# Altium footprint library INFINITY.Connector.PcbLib: 12 footprints
Each footprint in its own frame and in the unit in brackets; x right, y up, seen from the top. Pads: shape width x height; smd on the part's side, far side on the other; paste and mask are expansions set on the pad; w line width, h text height; cw(c..) or ccw(c..) is an arc to the next point about the centre after c.
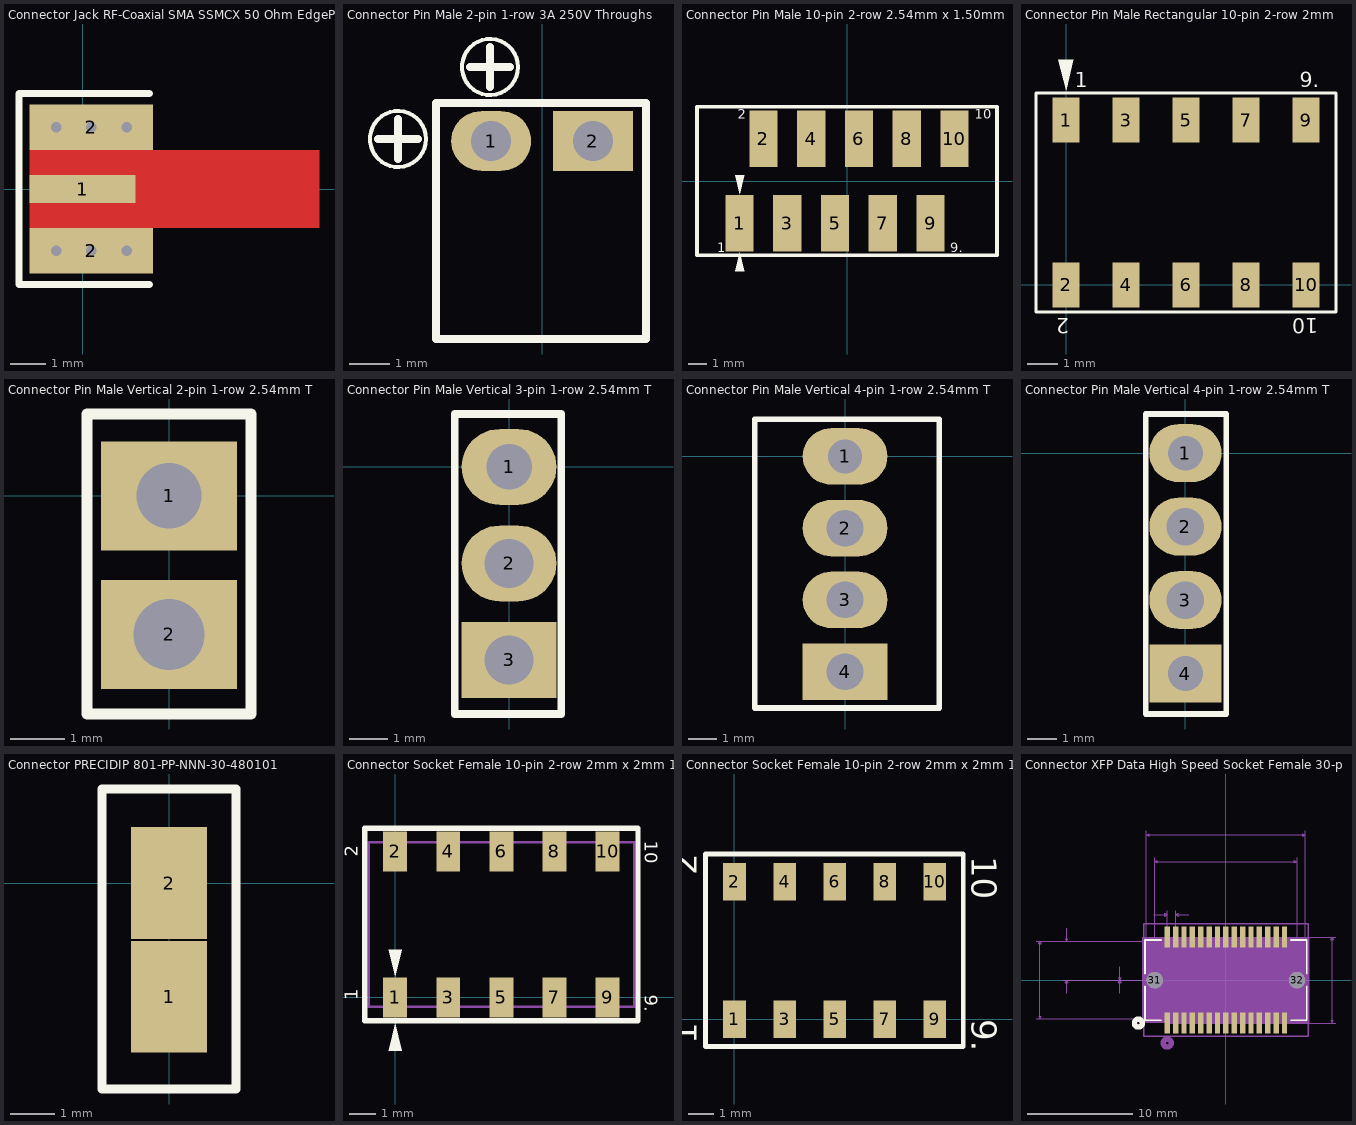
[diagram p0: the footprints below, top view; thin cyan lines are the x and y axes]

## Connector Jack RF-Coaxial SMA SSMCX 50 Ohm EdgePCB Molex 734154670 [mm]
pads (3):
  rect 3x0.8 smd mask+0: 1(0,0)
  rect 3.5x1.3 smd mask+0: 2(0.25,-1.75) 2(0.25,1.75)
via 0.25,1.75 diameter 0.7 hole 0.3
via 0.25,-1.75 diameter 0.7 hole 0.3
via 1.25,-1.75 diameter 0.7 hole 0.3
via -0.75,-1.75 diameter 0.7 hole 0.3
via 1.25,1.75 diameter 0.7 hole 0.3
via -0.75,1.75 diameter 0.7 hole 0.3
Top Layer:
  pour cut-out: -1.5,-1.1 6.7,-1.1 6.7,1.1 -1.5,1.1
Top Overlay:
  lines w0.2: 1.9,-2.7 -1.8,-2.7 -1.8,2.7 1.9,2.7
3D body "Connector Jack RF-Coaxial SMA SSMCX 50 Ohm EdgePCB Molex 734154670.STEP": height 1.44, standoff -0.86, extent -0.96,-1.971 6.709,1.928

## Connector Pin Male 2-pin 1-row 3A 250V Throughs hole Wurth Electronics 61900219521 [mm]
pads (2):
  oval 2x1.5 hole 1: 1(-1.27,7.45)
  rect 2x1.5 hole 1: 2(1.27,7.45)
Top Overlay:
  circle w0.1: c-3.6,7.5 r0.7
  circle w0.1: c-1.3,9.3 r0.7
  lines w0.2: -4.1,7.5 -3.6,7.5 ; -3.6,7 -3.6,8 -3.6,7.5 ; -1.8,9.3 -1.3,9.3 ; -1.3,8.8 -1.3,9.8 -1.3,9.3 ; -3.6,7.5 -3.1,7.5 -3.6,7.5 ; -1.3,9.3 -0.8,9.3 -1.3,9.3 ; -2.65,2.5 -2.65,8.4 2.6,8.4 2.6,2.5 -2.65,2.5
3D body "Connector Pins Wurth Electronics 61900219521 2 pins 3A 250V Throughs hole.stp": height 5.9, standoff -3.3, extent -2.557,-5.797 2.523,7.723

## Connector Pin Male 10-pin 2-row 2.54mm x 1.50mm 1.5A 100V SMT Wurth Electronics WR-MM 690357281076 [mm]
pads (10):
  rect 1.5x3 smd: 1(-5.715,-2.25) 2(-4.445,2.25) 3(-3.175,-2.25) 4(-1.905,2.25) 5(-0.635,-2.25) 6(0.635,2.25) 7(1.905,-2.25) 8(3.175,2.25) 9(4.445,-2.25) 10(5.715,2.25)
Top Overlay:
  region: -5.45,-4.8 -5.7,-3.8 -5.95,-4.8
  region: -5.95,0.3 -5.7,-0.7 -5.45,0.3
  lines w0.2: -7.975,-3.95 -7.975,3.95 7.975,3.95 7.975,-3.95 -7.975,-3.95
  text "9." at 5.5,-3.8 h0.5
  text "2" at -5.8,3.3 h0.5
  text "1" at -6.9,-3.8 h0.5
  text "10" at 6.8,3.3 h0.5
3D body "Connector Pin Male 10-pin 2-row 2.54mm x 1.50mm 1.5A 100V SMT Wurth Electronics WR-MM 690357281076.STEP": height 4.6, standoff 0, extent -7.865,-3.25 7.865,3.25

## Connector Pin Male Rectangular 10-pin 2-row 2mm x 2mm 125V 2A Series Milli-Grid 87759 SMT Molex 0877591014 [mm] "https://www.digikey.com/products/en?keywords=87759-1014"
height 5
pads (10):
  rect 0.9x1.5 smd: 1(0,5.5) 2(0,0) 3(2,5.5) 4(2,0) 5(4,5.5) 6(4,0) 7(6,5.5) 8(6,0) 9(8,5.5) 10(8,0)
Top Overlay:
  region: -0.25,7.5 0,6.5 0.25,7.5
  lines w0.1: -1,-0.9 -1,6.4 9,6.4 9,-0.9 -1,-0.9
  text "9." at 7.8,6.6 h0.5
  text "10" at 8.4,-1.1 h0.5
  text "2" at 0.1,-1.1 h0.5
  text "1" at 0.3,6.6 h0.5
3D body "877591014.stp": height 6.55, standoff 0.05, extent -0.95,0.05 8.95,5.55

## Connector Pin Male Vertical 2-pin 1-row 2.54mm Through Hole 250V 3A Wurth Electronics 61300211121 [mm]
pads (2):
  rect 2.5x2 hole 1.2: 1(0,0)
  rect 2.5x2 hole 1.3: 2(0,-2.54)
Top Overlay:
  lines w0.2: -1.5,-4 1.5,-4 1.5,1.5 -1.5,1.5 -1.5,-4
3D body "Download_STP_61300211121 (rev1).stp": height 8.57, standoff -2.97, extent -1.246,-3.809 1.294,1.271

## Connector Pin Male Vertical 3-pin 1-row 2.54mm Through Hole 250V 3A Wurth Electronics 61300311121 [mm]
pads (3):
  oval 2.5x2 hole 1.2: 1(0,0)
  oval 2.5x2 hole 1.3: 2(0,-2.54)
  rect 2.5x2 hole 1.3: 3(0,-5.08)
Top Overlay:
  lines w0.2: -1.427,-6.502 -1.427,1.394 1.372,1.394 1.372,-6.502 -1.427,-6.502
3D body "Connector Pins Header Vertical 3-positions Pitch 2.54mm Through Hole 250V 3A Wurth Electronics 61300311121.stp": height 8.57, standoff -2.97, extent -1.293,-6.366 1.247,1.254

## Connector Pin Male Vertical 4-pin 1-row 2.54mm Through Hole 250V 3A Molex 0022232041 [mm]
pads (4):
  oval 3x2 hole 1.2: 1(0,0)
  oval 3x2 hole 1.3: 2(0,-2.54) 3(0,-5.08)
  rect 3x2 hole 1.3: 4(0,-7.62)
Top Overlay:
  lines w0.2: -3.195,-8.909 3.332,-8.909 3.332,-0.332 3.332,1.313 -3.195,1.313 -3.195,-8.909
3D body "Connector Pins Header Vertical 4-positions Pitch 2.54mm Through Hole 250V 3A Molex 0022232041.stp": height 11.08, standoff -3.14, extent -3.1,-8.804 3.25,1.204

## Connector Pin Male Vertical 4-pin 1-row 2.54mm Through Hole 250V 3A Wurth Electronics 61300411121 [mm]
pads (4):
  oval 2.5x2 hole 1.2: 1(0,0)
  oval 2.5x2 hole 1.3: 2(0,-2.54) 3(0,-5.08)
  rect 2.5x2 hole 1.2: 4(0,-7.62)
Top Overlay:
  lines w0.2: -1.371,-9.019 1.411,-9.019 1.411,1.353 -1.371,1.353 -1.371,-9.019
3D body "Connector Pins Header Vertical 4-positions Pitch 2.54mm Through Hole 250V 3A Wurth Electronics 61300411121.stp": height 8.57, standoff -2.97, extent -1.249,-8.913 1.291,1.247

## Connector PRECIDIP 801-PP-NNN-30-480101 [mm]
height 4.2
pads (2):
  rect 1.7x2.5 smd: 1(0,-2.54) 2(0,0)
Top Overlay:
  lines w0.2: -1.5,-4.6 1.5,-4.6 1.5,2.1 -1.5,2.1 -1.5,-4.6
3D body "Connector Socket Vertical 2-positions 2.54mm 3A SMT PRECIDIP 801-PP-NNN-30-480101.stp": height 4.2, standoff 0, extent -1.27,-3.81 1.27,1.27

## Connector Socket Female 10-pin 2-row 2mm x 2mm 1.9A 125V SMT Molex 873811064 [mm]
pads (10):
  rect 0.9x1.5 smd: 1(0,0) 2(0,5.5) 3(2,0) 4(2,5.5) 5(4,0) 6(4,5.5) 7(6,0) 8(6,5.5) 9(8,0) 10(8,5.5)
Top Overlay:
  region: -0.25,1.8 0,0.8 0.25,1.8
  region: 0.25,-2 0,-1 -0.25,-2
  lines w0.2: -1.15,-0.875 -1.15,6.375 9.15,6.375 9.15,-0.875 -1.15,-0.875
  text "9." at 9.4,0.1 h0.5
  text "10" at 9.4,5.9 h0.5
  text "2" at -1.4,5.3 h0.5
  text "1" at -1.4,-0.1 h0.5
Mechanica 3D body:
  lines w0.1: -1,-0.35 -1,5.85 9,5.85 9,-0.35 -1,-0.35
3D body "873811064.stp": height 5.11, standoff 0.01, extent -1,-0.35 9,5.85

## Connector Socket Female 10-pin 2-row 2mm x 2mm 1A 200V SMT Hirose Electric A3-10DA-2SV(71) [mm]
pads (10):
  rect 0.9x1.5 smd: 1(0,0) 2(0,5.5) 3(2,0) 4(2,5.5) 5(4,0) 6(4,5.5) 7(6,0) 8(6,5.5) 9(8,0) 10(8,5.5)
Top Overlay:
  lines w0.2: -1.15,-1.1 -1.15,6.6 9.15,6.6 9.15,-1.1 -1.15,-1.1
  text "9." at 9.5,0 h1
  text "10" at 9.5,6.5 h1
  text "2" at -1.5,5.75 h1
  text "1" at -1.5,-1 h1
3D body "Connector Socket Female 10-pin 2-row 2mm x 2mm 1A 200V SMT Hirose Electric A3-10DA-2SV(71).STEP": height 4.1, standoff -0.1, extent -1,-0.25 9,5.75

## Connector XFP Data High Speed Socket Female 30-pos Pitch 0.8mm SMT TE Connectivity 788862-1 [mil]
pads (32):
  rect 20x79 smd paste+0 mask+0: 1(-220.47,-161.42) 2(-188.98,-161.42) 3(-157.48,-161.42) 4(-125.98,-161.42) 5(-94.49,-161.42) 6(-62.99,-161.42) 7(-31.5,-161.42) 8(0,-161.42) 9(31.5,-161.42) 10(62.99,-161.42) 11(94.49,-161.42) 12(125.98,-161.42) 13(157.48,-161.42) 14(188.98,-161.42) 15(220.47,-161.42) 16(220.47,161.42) 17(188.98,161.42) 18(157.48,161.42) 19(125.98,161.42) 20(94.49,161.42) 21(62.99,161.42) 22(31.5,161.42) 23(0,161.42) 24(-31.5,161.42) 25(-62.99,161.42) 26(-94.49,161.42) 27(-125.98,161.42) 28(-157.48,161.42) 29(-188.98,161.42) 30(-220.47,161.42)
  round 61 hole 61: 31(-267.5,0) 32(267.5,0)
Top Overlay:
  circle w20: c-329,-161.42 r15
  lines w6: -304,-23.85 -304,-150 -243.57,-150 ; -304,23.85 -304,151 -243.57,151 ; 243.57,-150 304,-150 304,-23.85 ; 243.57,151 304,151 304,23.85
Bottom Overlay:
  circle w20: c-329,-161.42 r15
Mechanical 5:
  region: -314,161 314,161 314,-160 -314,-160
Mechanical 7:
  lines w1: -714,-145 -299,-145 ; -714,146 -299,146 ; -614,0 0,0 -414,0 267.5,0 267.5,461 ; -614,146 -299,146 ; -599,-50 -599,0 ; -599,196 -599,146 ; -399,-50 -399,0 ; -399,50 -399,0 ; -299,561 -299,146 ; -270.47,246 -220.47,246 ; -267.5,0 -267.5,461 ; -220.47,161.42 414,161.42 ; -220.47,261 -220.47,-161.42 414,-161.42 ; -188.98,-161.42 -188.98,261 ; -138.98,246 -188.98,246 ; 299,146 299,561 ; -699,-145 -699,146 ; -699,-145 -704,-135 -694,-135 -699,-145 ; -699,146 -704,136 -694,136 -699,146 ; -599,0 -604,-10 -594,-10 -599,0 ; -599,146 -604,156 -594,156 -599,146 ; -399,0 -404,10 -394,10 -399,0 ; -399,0 -404,-10 -394,-10 -399,0 ; -299,546 299,546 ; -299,546 -289,551 -289,541 -299,546 ; -267.5,446 267.5,446 ; -267.5,446 -257.5,451 -257.5,441 -267.5,446 ; -220.47,246 -230.47,251 -230.47,241 -220.47,246 ; -188.98,246 -178.98,251 -178.98,241 -188.98,246 ; 267.5,446 257.5,451 257.5,441 267.5,446 ; 299,546 289,551 289,541 299,546 ; 399,-161.42 399,161.42 ; 399,-161.42 394,-151.42 404,-151.42 399,-161.42 ; 399,161.42 394,151.42 404,151.42 399,161.42
  text "Default Padstyle: RX20Y79D0T" at -350,-295 h50
  text "1st Mtg Padstyle: EX61Y61D61P" at -362.5,-370 h50
  text "2nd Mtg Padstyle: EX70Y70D70P" at -362.5,-445 h50
  text "3rd Mtg Padstyle: EX70Y70D70P" at -362.5,-520 h50
  text "Left Mtg Padstyle: EX60Y60D30P" at -375,-595 h50
  text "Right Mtg Padstyle: EX60Y60D30P" at -387.5,-670 h50
  text "Alt Padstyle 1: OX60Y90D30P" at -337.5,-745 h50
  text "Alt Padstyle 2: OX90Y60D30P" at -337.5,-820 h50
  text "0.031in/0.8mm" at -207.23,266 h25
  text "0.535in/13.589mm" at -100,466 h25
  text "0.598in/15.189mm" at -100,566 h25
  text "0.323in/8.2mm" at 419,-12.5 h25
  text "0in/0mm" at -506.5,-12.5 h25
  text "0.146in/3.708mm" at -806.5,60.5 h25
  text "0.291in/7.391mm" at -906.5,60.5 h25
Mechanica 13:
  circle w20: c-220.47,-236.42 r15
  lines w1: -299,-145 299,-145 299,146 -299,146 -299,-145
Mechanical 15:
  lines w6: -309,-211 -309,212 309,212 309,-211 -309,-211